# Altium footprint library CES-130-01-T-S.PcbLib: 1 footprints
Each footprint in its own frame and in the unit in brackets; x right, y up, seen from the top. Pads: shape width x height; smd on the part's side, far side on the other; paste and mask are expansions set on the pad; w line width, h text height; cw(c..) or ccw(c..) is an arc to the next point about the centre after c.
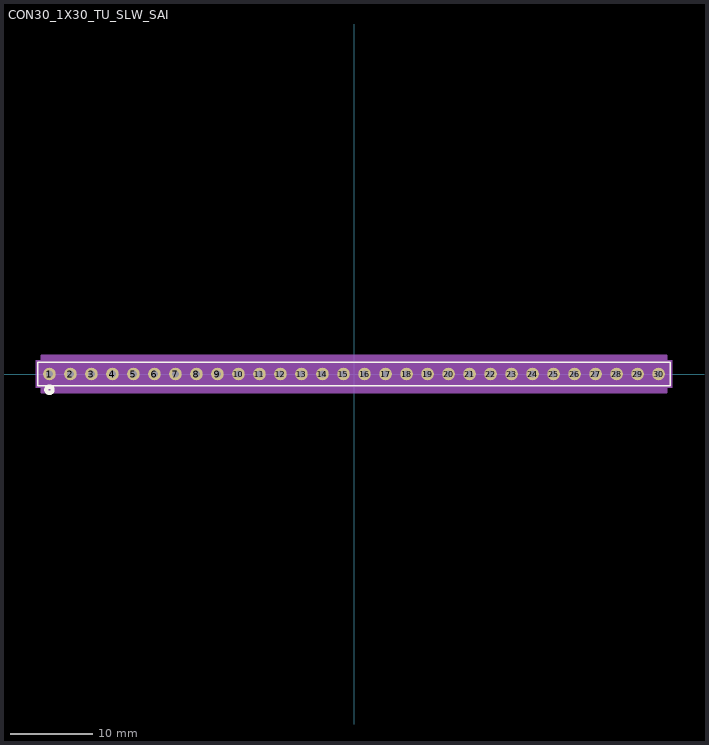
[diagram p0: the footprint, top view; thin cyan lines are the x and y axes]

## CON30_1X30_TU_SLW_SAI [mil]
pads (30):
  round 60 hole 35 mask+0: 1(-1450,0) 2(-1350,0) 3(-1250,0) 4(-1150,0) 5(-1050,0) 6(-950,0) 7(-850,0) 8(-750,0) 9(-650,0) 10(-550,0) 11(-450,0) 12(-350,0) 13(-250,0) 14(-150,0) 15(-50,0) 16(50,0) 17(150,0) 18(250,0) 19(350,0) 20(450,0) 21(550,0) 22(650,0) 23(750,0) 24(850,0) 25(950,0) 26(1050,0) 27(1150,0) 28(1250,0) 29(1350,0) 30(1450,0)
Top Overlay:
  circle w20: c-1450,-75 r15
  lines w6: -1505,-55 1505,-55 1505,55 -1505,55 -1505,-55
Bottom Overlay:
  circle w20: c-1450,-75 r15
Mechanical 5:
  region: -1515,65 1515,65 1515,-65 -1515,-65
Mechanical 13:
  circle w0: c-1450,0 r10
  lines w1: -1500,-50 1500,-50 1500,50 -1500,50 -1500,-50
Mechanical 15:
  region: 1510,60 1490,60 1490,90 -1490,90 -1490,60 -1510,60 -1510,-60 -1490,-60 -1490,-90 1490,-90 1490,-60 1510,-60
  lines w6: -1510,-60 -1510,60 -1490,60 -1490,90 1490,90 1490,60 1510,60 1510,-60 1490,-60 1490,-90 -1490,-90 -1490,-60 -1510,-60
3D body: height 10, standoff 0, extent 0,0 10,10